# Altium footprint library dakPCBLib.PcbLib: 4 footprints
Each footprint in its own frame and in the unit in brackets; x right, y up, seen from the top. Pads: shape width x height; smd on the part's side, far side on the other; paste and mask are expansions set on the pad; w line width, h text height; cw(c..) or ccw(c..) is an arc to the next point about the centre after c.
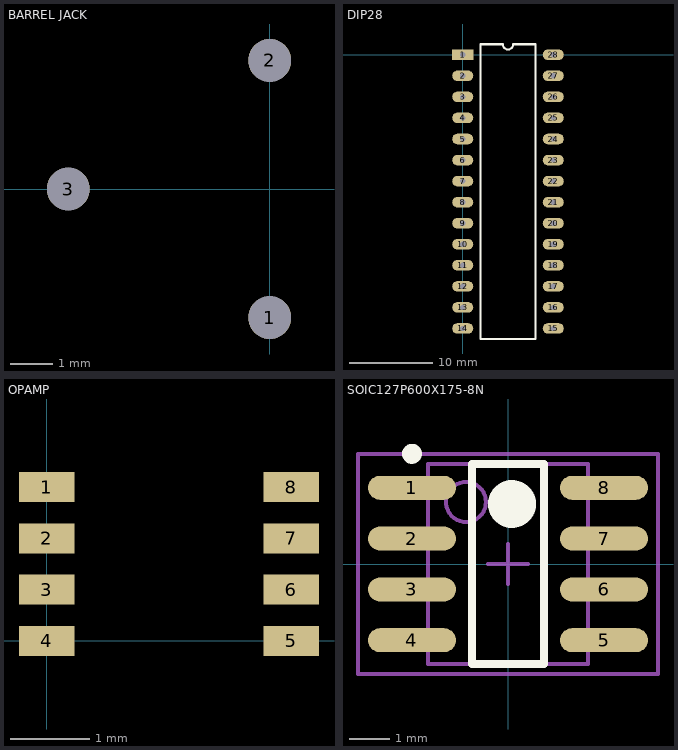
[diagram p0: the footprints below, top view; thin cyan lines are the x and y axes]

## BARREL JACK [mm]
pads (3):
  round 1 hole 1: 1(0,-3) 2(0,3) 3(-4.7,0)

## DIP28 [mil]
pads (28):
  rect 100x50 hole 25: 1(0,0)
  oval 100x50 hole 25: 2(0,-100) 3(0,-200) 4(0,-300) 5(0,-400) 6(0,-500) 7(0,-600) 8(0,-700) 9(0,-800) 10(0,-900) 11(0,-1000) 12(0,-1100) 13(0,-1200) 14(0,-1300) 15(430,-1300) 16(430,-1200) 17(430,-1100) 18(430,-1000) 19(430,-900) 20(430,-800) 21(430,-700) 22(430,-600) 23(430,-500) 24(430,-400) 25(430,-300) 26(430,-200) 27(430,-100) 28(430,0)
Top Overlay:
  lines w10: 85,-1350 85,50 190,50 ccw(c215,50) 240,50 345,50 345,-1350 85,-1350

## OPAMP [mm]
pads (8):
  rect 0.7x0.38 smd: 1(0,1.95) 2(0,1.3) 3(0,0.65) 4(0,0) 5(3.1,0) 6(3.1,0.65) 7(3.1,1.3) 8(3.1,1.95)

## SOIC127P600X175-8N [mm] "SOIC, 8-Leads, Body 5.0x4.0mm (max), Pitch 1.27mm, IPC Medium Density"
height 1.75
pads (8):
  oval 2.2x0.6 smd: 1(-2.4,1.905) 2(-2.4,0.635) 3(-2.4,-0.635) 4(-2.4,-1.905) 5(2.4,-1.905) 6(2.4,-0.635) 7(2.4,0.635) 8(2.4,1.905)
Top Overlay:
  circle w0.6: c0.1,1.5 r0.3
  circle w0.25: c-2.4,2.755 r0.125
  lines w0.2: -0.9,-2.5 0.9,-2.5 0.9,2.5 -0.9,2.5 -0.9,-2.5
Mechanical 13:
  circle w0.1: c-1.05,1.55 r0.5
  lines w0.1: -2,-2.5 2,-2.5 2,2.5 -2,2.5 -2,-2.5
Mechanical 15:
  lines w0.1: -0.5,0 0.5,0 ; 0,-0.5 0,0.5 ; -3.75,-2.75 3.75,-2.75 3.75,2.75 -3.75,2.75 -3.75,-2.75
3D body: height 1.75, standoff 0.25, extent -2,-2.46 2,2.54